# EAGLE library part DRF1276G (library lora-modules)
DRF1276G <http://www.dorji.com/docs/data/DRF1276G.pdf> - 20dBm LoRA Long Range RF Front-end Module Frequency Range: 868/915 MHz Modulation: FSK/GFSK/MSK/LoRa SPI Data Interface Sensitivity: -139dBm Output Power: +20dBm Data Rate: 300kbps 127dB Dynamic Range RSSI Excellent Blocking Immunity Preamble Detection Automatic RF Sense and CAD Monitor Built-in bit Synchronizer for Clock Recovery Packet engine up to 256 bytes with CRC Working Temperature: -40C ~+80C Built-in Temperature Sensor Standby Current: ≤ 1uA Supply Voltage: 1.8~3.6V
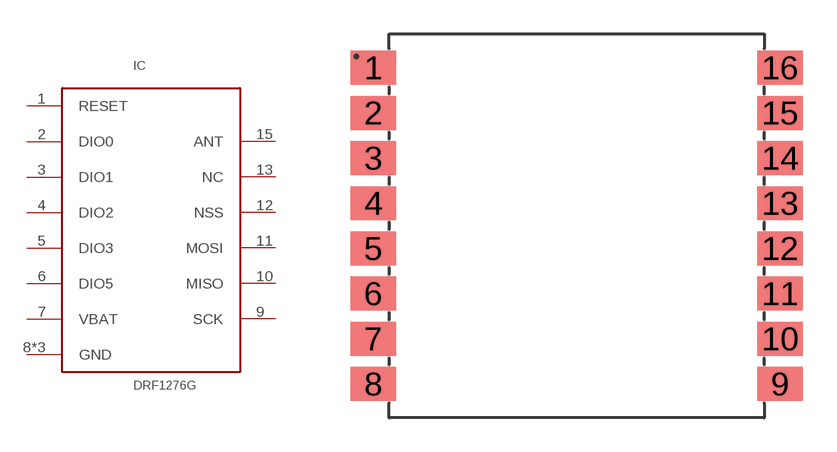
[diagram p0: symbol with the pads of DORJI-DRF1276G; footprint DORJI-DRF1276G]

Designator prefix IC

## DRF1276G  [DORJI-DRF1276G]
1  RESET
2  DIO0
3  DIO1
4  DIO2
5  DIO3
6  DIO5
7  VBAT  pwr
8  GND  pwr
9  SCK  in
10  MISO  out
11  MOSI  in
12  NSS  out
13  NC  nc
14  GND  pwr
15  ANT
16  GND  pwr

## Footprint DORJI-DRF1276G (pad centres in mm)
smd 2 x 1.5: 1 -9,7; 2 -9,5; 3 -9,3; 4 -9,1; 5 -9,-1; 6 -9,-3; 7 -9,-5; 8 -9,-7; 9 9,-7; 10 9,-5; 11 9,-3; 12 9,-1; 13 9,1; 14 9,3; 15 9,5; 16 9,7